# Altium footprint library Res0603.PcbLib: 1 footprints
Each footprint in its own frame and in the unit in brackets; x right, y up, seen from the top. Pads: shape width x height; smd on the part's side, far side on the other; paste and mask are expansions set on the pad; w line width, h text height; cw(c..) or ccw(c..) is an arc to the next point about the centre after c.
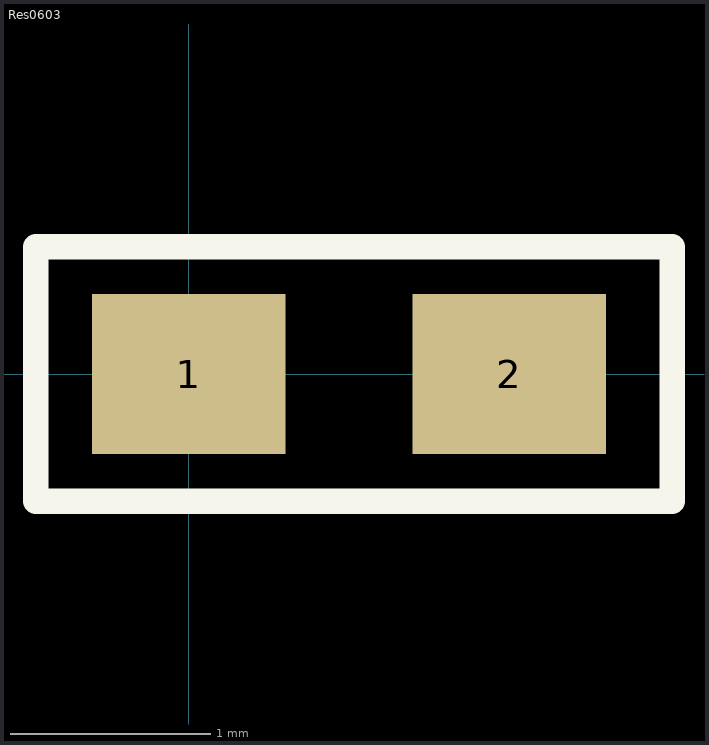
[diagram p0: the footprint, top view; thin cyan lines are the x and y axes]

## Res0603 [mm]
pads (2):
  rect 0.965x0.8 smd: 1(0,0) 2(1.6,0)
Top Overlay:
  lines w0.127: -0.762,-0.635 -0.762,0.635 2.413,0.635 2.413,-0.635 -0.762,-0.635